# EAGLE library part LTMM-110-XX-XX-D-RA (library my)
LTMM ASSEMBLY, 20PINS.
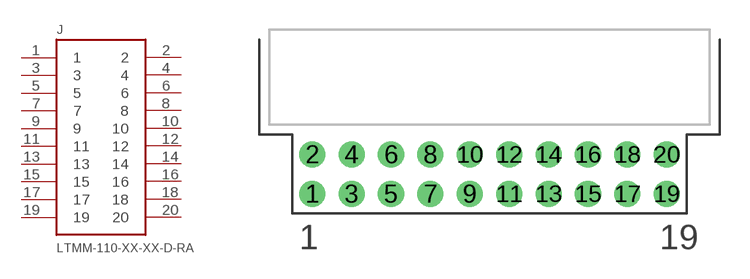
[diagram p0: symbol with the pads of LTMM-110-XX-XX-D-RA; footprint LTMM-110-XX-XX-D-RA]

Designator prefix J

## LTMM-110-XX-XX-D-RA  [LTMM-110-XX-XX-D-RA]
1  1
2  2
3  3
4  4
5  5
6  6
7  7
8  8
9  9
10  10
11  11
12  12
13  13
14  14
15  15
16  16
17  17
18  18
19  19
20  20

## Footprint LTMM-110-XX-XX-D-RA (pad centres in mm)
LTMM ASSEMBLY, 20PINS.
drill 0.813 pad 1.219: 1 -9,-8.35; 2 -9,-6.35; 3 -7,-8.35; 4 -7,-6.35; 5 -5,-8.35; 6 -5,-6.35; 7 -3,-8.35; 8 -3,-6.35; 9 -1,-8.35; 10 -1,-6.35; 11 1,-8.35; 12 1,-6.35; 13 3,-8.35; 14 3,-6.35; 15 5,-8.35; 16 5,-6.35; 17 7,-8.35; 18 7,-6.35; 19 9,-8.35; 20 9,-6.35